# EAGLE library part DMMT5401 (library Ava)
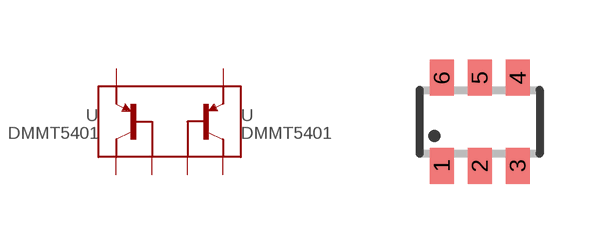
[diagram p45: symbol with the pads of SOT26; footprint SOT26]

Designator prefix -

## DMMT5401  [SOT26]
1  C1  pas
2  B1  pas
3  B2  pas
4  C2  pas
5  E2  pas
6  E1  pas

## Footprint SOT26 (pad centres in mm)
smd 0.6 x 0.9: 1 -0.95,-1.1; 2 0,-1.1; 3 0.95,-1.1; 4 0.95,1.1; 5 0,1.1; 6 -0.95,1.1